# EAGLE library part W25Q80BV (library PaxInstruments-DigitalIC)
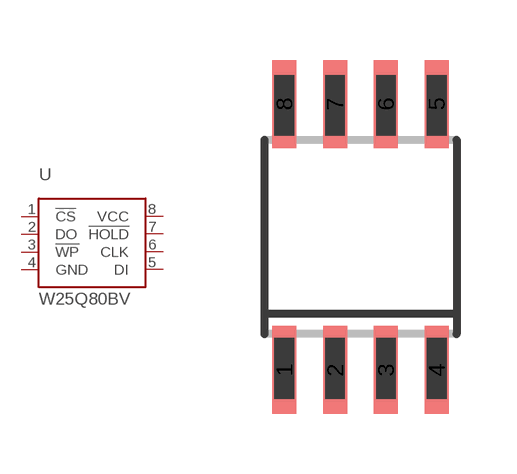
[diagram p5: symbol with the pads of SOIC8M; footprint SOIC8M]

Designator prefix -

## W25Q80BV (MF: Winbond Electronics; MPN: W25Q80DVSSIG-ND)  [SOIC8M]
1  !CS
2  DO
3  !WP
4  GND
5  DI
6  CLK
7  !HOLD
8  VCC

## Footprint SOIC8M (pad centres in mm)
smd 0.6 x 2.2: 1 -1.905,-3.33; 2 -0.635,-3.33; 3 0.635,-3.33; 4 1.905,-3.33; 5 1.905,3.33; 6 0.635,3.33; 7 -0.635,3.33; 8 -1.905,3.33